# Altium schematic symbol library TC33X.SchLib: 1 symbol
Pins are listed as number, name and electrical type; pins without a type are passive.

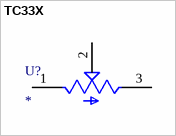
[diagram p0: symbol TC33X]

## TC33X
designator U?
Value: *
pins: 1 CCW, 2 W, 3 CW